# EAGLE library part WE-FB_ER9.5 (library WE-FB)
WE-FB Flyback Transformer suitable for LT3573/ LT3574/ LT3575/ LT3748 Characteristics Easy design-in solution Less external components needed Small board space Low cost No optocoupler needed! Long term reliability voltage control No aging Same external parts for different output voltages Easy design of custom power supply due to standard circuit and change of transformers and two components for feedback loop Isolation voltage up to 2.5 kV Applications Isolated power design Sensor interfaces Isolated telecom converters Power over Ethernet <https://www.we-online.com/catalog/media/o35283v209%20Family_we-fb_LT%20Kits_gruppe.jpg> Details see: www.we-online.com/catalog/WE-FB <www.we-online.com/catalog/WE-FB/?utm_source=eagle_model&utm_medium=description_link&utm_campaign=eisos_eagle> Updated by Ella Wu 2022-07-21 2022 Wurth Elektronik
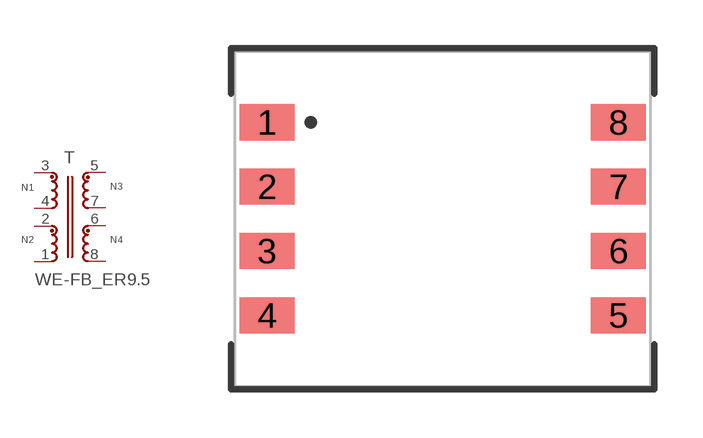
[diagram p7: symbol with the pads of WE-FB_ER9.5; footprint WE-FB_ER9.5]

Designator prefix T

## WE-FB_ER9.5_750370042 (DATASHEET-URL: https://www.we-online.com/redexpert/spec/750370042?ae; IOUT: 0.2A/0.1A/0.1A; ISAT: 1.5A; L: 15uH; LSMIN: 0.25uH; MOUNT: SMT; N: 1:1:1:1; PART-NUMBER: 750370042; VALUE: 750370042; VIN: 5V(DC); VOUT: 5V/5V/5V; VT: 1500V(AC))  [WE-FB_ER9.5]
1  4  pas
2  3  pas
3  1  pas
4  2  pas
5  8  pas
6  6  pas
7  7  pas
8  5  pas

## Footprint WE-FB_ER9.5 (pad centres in mm)
WE-FB Flyback Transformer suitable for LT3573/ LT3574/ LT3575/ LT3748 Size: ER9.5 SMD 8Pin
smd 1.7 x 1.12: 1 -5.46,3; 2 -5.46,1; 3 -5.46,-1; 4 -5.46,-3; 5 5.46,-3; 6 5.46,-1; 7 5.46,1; 8 5.46,3